# EAGLE library part LM73606RNPR (library LM73606RNPR)
Switching Voltage Regulators 3.5V to 36V,6A Synch Step-Down Volt Source: Datasheet <http://www.ti.com/lit/ds/symlink/lm73606.pdf>
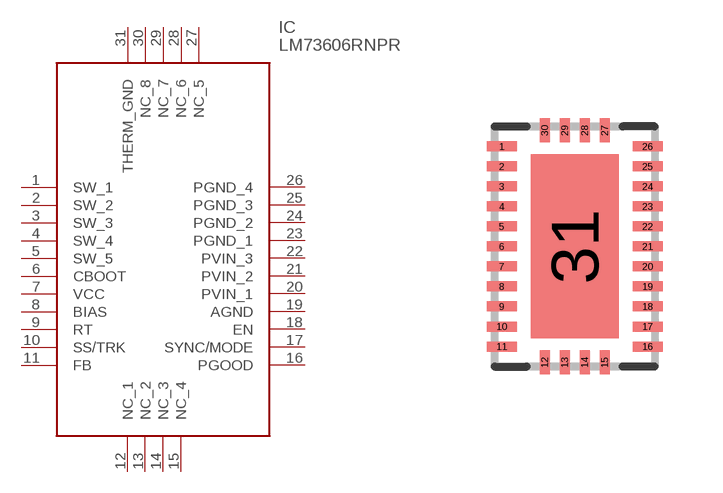
[diagram p0: symbol with the pads of RNP0030A; footprint RNP0030A]

Designator prefix IC

## LM73606RNPR (Description: Switching Voltage Regulators 3.5V to 36V,6A Synch Step-Down Volt; Height: mm; Manufacturer_Name: Texas Instruments; Manufacturer_Part_Number: LM73606RNPR; Mouser_Part_Number: 595-LM73606RNPR; Mouser_Price-Stock: https://www.mouser.co.uk/ProductDetail/Texas-Instruments/LM73606RNPR?qs=1mbolxNpo8cvH90iE325zw%3D%3D)  [RNP0030A]
1  SW_1  out
2  SW_2  out
3  SW_3  out
4  SW_4  out
5  SW_5  out
6  CBOOT
7  VCC  pwr
8  BIAS  in
9  RT  in
10  SS/TRK  in
11  FB  in
12  NC_1  pwr
13  NC_2  pwr
14  NC_3  pwr
15  NC_4  pwr
16  PGOOD  out
17  SYNC/MODE  in
18  EN  in
19  AGND  pwr
20  PVIN_1  in
21  PVIN_2  in
22  PVIN_3  in
23  PGND_1  pwr
24  PGND_2  pwr
25  PGND_3  pwr
26  PGND_4  pwr
27  NC_5  pwr
28  NC_6  pwr
29  NC_7  pwr
30  NC_8  pwr
31  THERM_GND  pwr

## Footprint RNP0030A (pad centres in mm)
RNP0030A
smd 0.75 x 0.25: 1 -1.825,2.5; 2 -1.825,2; 3 -1.825,1.5; 4 -1.825,1; 5 -1.825,0.5; 6 -1.825,0; 7 -1.825,-0.5; 8 -1.825,-1; 9 -1.825,-1.5; 10 -1.825,-2; 11 -1.825,-2.5; 16 1.825,-2.5; 17 1.825,-2; 18 1.825,-1.5; 19 1.825,-1; 20 1.825,-0.5; 21 1.825,0; 22 1.825,0.5; 23 1.825,1; 24 1.825,1.5; 25 1.825,2; 26 1.825,2.5
smd 0.25 x 0.6: 12 -0.75,-2.9; 13 -0.25,-2.9; 14 0.25,-2.9; 15 0.75,-2.9; 27 0.75,2.9; 28 0.25,2.9; 29 -0.25,2.9; 30 -0.75,2.9
smd 2.2 x 4.6: 31 0,0